# EAGLE library part 1X24-* (library jt-con-tyco)
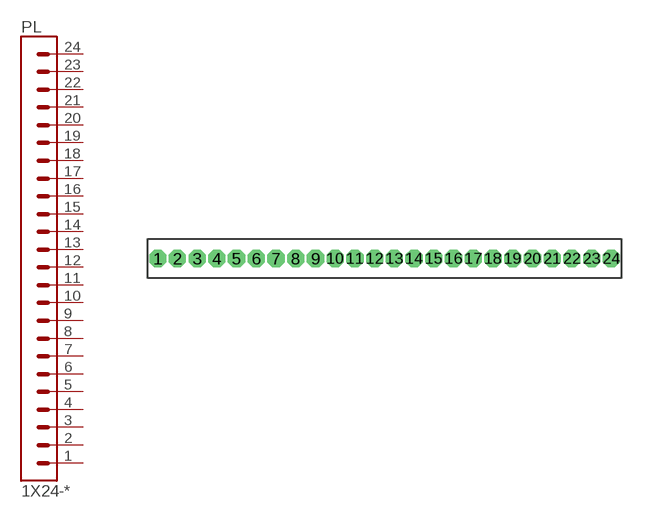
[diagram p12: symbol with the pads of 1.27X24; footprint 1.27X24]

Designator prefix PL

## 1X24-PIN  [1.27X24]
1  1
2  2
3  3
4  4
5  5
6  6
7  7
8  8
9  9
10  10
11  11
12  12
13  13
14  14
15  15
16  16
17  17
18  18
19  19
20  20
21  21
22  22
23  23
24  24

## Footprint 1.27X24 (pad centres in mm)
1.27mm pin spacing x 24
drill 0.6 pad 1.016 octagon: 1 -14.605,0; 2 -13.335,0; 3 -12.065,0; 4 -10.795,0; 5 -9.525,0; 6 -8.255,0; 7 -6.985,0; 8 -5.715,0; 9 -4.445,0; 10 -3.175,0; 11 -1.905,0; 12 -0.635,0; 13 0.635,0; 14 1.905,0; 15 3.175,0; 16 4.445,0; 17 5.715,0; 18 6.985,0; 19 8.255,0; 20 9.525,0; 21 10.795,0; 22 12.065,0; 23 13.335,0; 24 14.605,0